# EAGLE library part PNJ4K01F (library lightmeter)
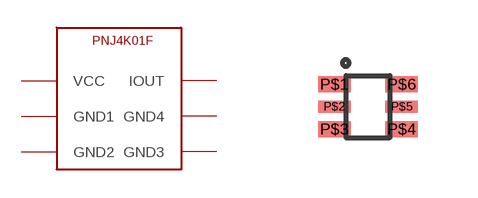
[diagram p9: symbol with the pads of PNJ4K01F; footprint PNJ4K01F]

Designator prefix -

## PNJ4K01F  [PNJ4K01F]
P$1  VCC
P$2  GND1
P$3  GND2
P$4  GND3
P$5  GND4
P$6  IOUT

## Footprint PNJ4K01F (pad centres in mm)
smd 0.813 x 0.401: P$1 -0.843,0.56; P$3 -0.843,-0.56; P$4 0.843,-0.56; P$6 0.843,0.56
smd 0.813 x 0.3: P$2 -0.843,0; P$5 0.843,0